# EAGLE library part IIGS_MEM_EXP_SLOT (library apple_ii)
Apple IIgs Memory Expansion Cardedge
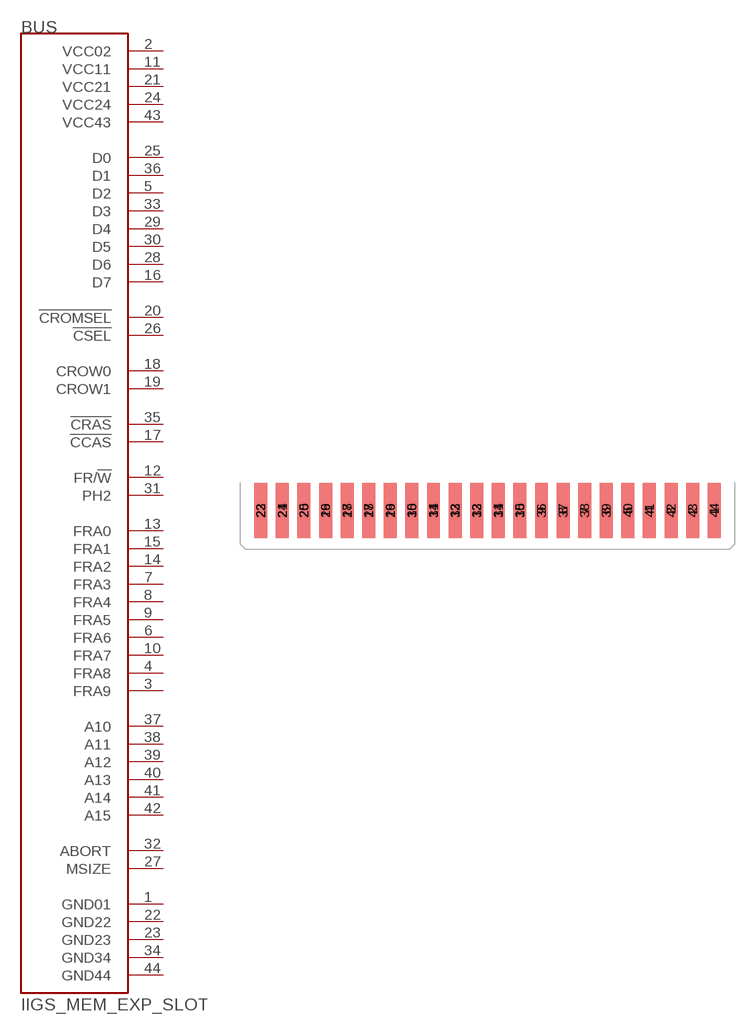
[diagram p2: symbol with the pads of CARDEDGE44M; footprint CARDEDGE44M]

Designator prefix BUS

## IIGS_MEM_EXP_SLOT (DNP: TRUE)  [CARDEDGE44M]
1  GND01  sup
2  VCC02  sup
3  FRA9  out
4  FRA8  out
5  D2
6  FRA6  out
7  FRA3  out
8  FRA4  out
9  FRA5  out
10  FRA7  out
11  VCC11  sup
12  FR/!W  out
13  FRA0  out
14  FRA2  out
15  FRA1  out
16  D7
17  !CCAS  out
18  CROW0  out
19  CROW1  out
20  !CROMSEL  out
21  VCC21  sup
22  GND22  sup
23  GND23  sup
24  VCC24  sup
25  D0
26  !CSEL  out
27  MSIZE  in
28  D6
29  D4
30  D5
31  PH2  out
32  ABORT  out
33  D3
34  GND34  sup
35  !CRAS  out
36  D1
37  A10  out
38  A11  out
39  A12  out
40  A13  out
41  A14  out
42  A15  out
43  VCC43  sup
44  GND44  sup

## Footprint CARDEDGE44M (pad centres in mm)
44 pin 0.1" cardedge connector derived from 8-bit CARD IBM/PC-AT found in Eagle's con-pc.lbr. µ2011.01.17 D Lue Choy Modified by Thomas Fok
smd 1.524 x 6.477 bottom: 1 0,5.08; 2 -2.54,5.08; 3 -5.08,5.08; 4 -7.62,5.08; 5 -10.16,5.08; 6 -12.7,5.08; 7 -15.24,5.08; 8 -17.78,5.08; 9 -20.32,5.08; 10 -22.86,5.08; 11 -25.4,5.08; 12 -27.94,5.08; 13 -30.48,5.08; 14 -33.02,5.08; 15 -35.56,5.08; 16 -38.1,5.08; 17 -40.64,5.08; 18 -43.18,5.08; 19 -45.72,5.08; 20 -48.26,5.08; 21 -50.8,5.08; 22 -53.34,5.08
smd 1.524 x 6.477: 23 -53.34,5.08; 24 -50.8,5.08; 25 -48.26,5.08; 26 -45.72,5.08; 27 -43.18,5.08; 28 -40.64,5.08; 29 -38.1,5.08; 30 -35.56,5.08; 31 -33.02,5.08; 32 -30.48,5.08; 33 -27.94,5.08; 34 -25.4,5.08; 35 -22.86,5.08; 36 -20.32,5.08; 37 -17.78,5.08; 38 -15.24,5.08; 39 -12.7,5.08; 40 -10.16,5.08; 41 -7.62,5.08; 42 -5.08,5.08; 43 -2.54,5.08; 44 0,5.08